# Altium integrated library TI Logarithmic Amplifier.IntLib: 2 symbols
Pins are listed as number, name and electrical type; pins without a type are passive.

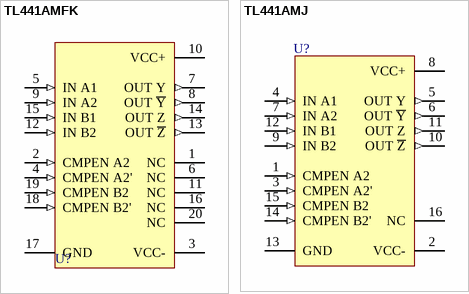
[diagram p0: symbols TL441AMFK to TL441AMJ]

## TL441AMFK
designator U?
Logarithmic Amplifier; Published: 15-Apr-2002; DatasheetVersion: Feb-1989; PackageVersion: 1998; PackageReference: FK020; Publisher: Altium Limited; PackageDescription: Leadless Chip Carrier; 20 Terminals; Body 8.9 x 8.9 mm; ComponentLink1Description: Manufacturer Link; ComponentLink1URL: http://www.ti.com/; ComponentLink2Description: Datasheet; ComponentLink2URL: http://www-s.ti.com/sc/ds/tl441a.pdf
footprint FK020 (Leadless Chip Carrier; 20 Terminals; Body 8.9 x 8.9 mm)
pins: 1 NC, 2 CMPEN A2 (in), 3 VCC- (power), 4 CMPEN A2' (in), 5 IN A1 (in), 6 NC, 7 OUT Y (out), 8 OUT ~{Y} (out), 9 IN A2 (in), 10 VCC+ (power), 11 NC, 12 IN B2 (in), 13 OUT ~{Z} (out), 14 OUT Z (out), 15 IN B1 (in), 16 NC, 17 GND (power), 18 CMPEN B2' (in), 19 CMPEN B2 (in), 20 NC

## TL441AMJ
designator U?
Logarithmic Amplifier; Published: 15-Apr-2002; LatestRevisionDate: 04-Mar-2005; LatestRevisionNote: Stylized 3D Model Added.; DatasheetVersion: Feb-1989; PackageVersion: Jun-1999; PackageReference: J016; Publisher: Altium Limited; PackageDescription: DIP; 16 Leads; Row Spacing 7.62 mm; Pitch 2.54 mm; ComponentLink1Description: Manufacturer Link; ComponentLink1URL: http://www.ti.com/; ComponentLink2Description: Datasheet; ComponentLink2URL: http://www-s.ti.com/sc/ds/tl441a.pdf
footprint J016 (DIP; 16 Leads; Row Spacing 7.62 mm; Pitch 2.54 mm)
3D model J016 (DIP; 16 Leads; Row Spacing 7.62 mm; Pitch 2.54 mm)
pins: 1 CMPEN A2 (in), 2 VCC- (power), 3 CMPEN A2' (in), 4 IN A1 (in), 5 OUT Y (out), 6 OUT ~{Y} (out), 7 IN A2 (in), 8 VCC+ (power), 9 IN B2 (in), 10 OUT ~{Z} (out), 11 OUT Z (out), 12 IN B1 (in), 13 GND (power), 14 CMPEN B2' (in), 15 CMPEN B2 (in), 16 NC